# Altium footprint library SG__PCB_SOT.PcbLib: 28 footprints (part 1 of 2)
Each footprint in its own frame and in the unit in brackets; x right, y up, seen from the top. Pads: shape width x height; smd on the part's side, far side on the other; paste and mask are expansions set on the pad; w line width, h text height; cw(c..) or ccw(c..) is an arc to the next point about the centre after c.
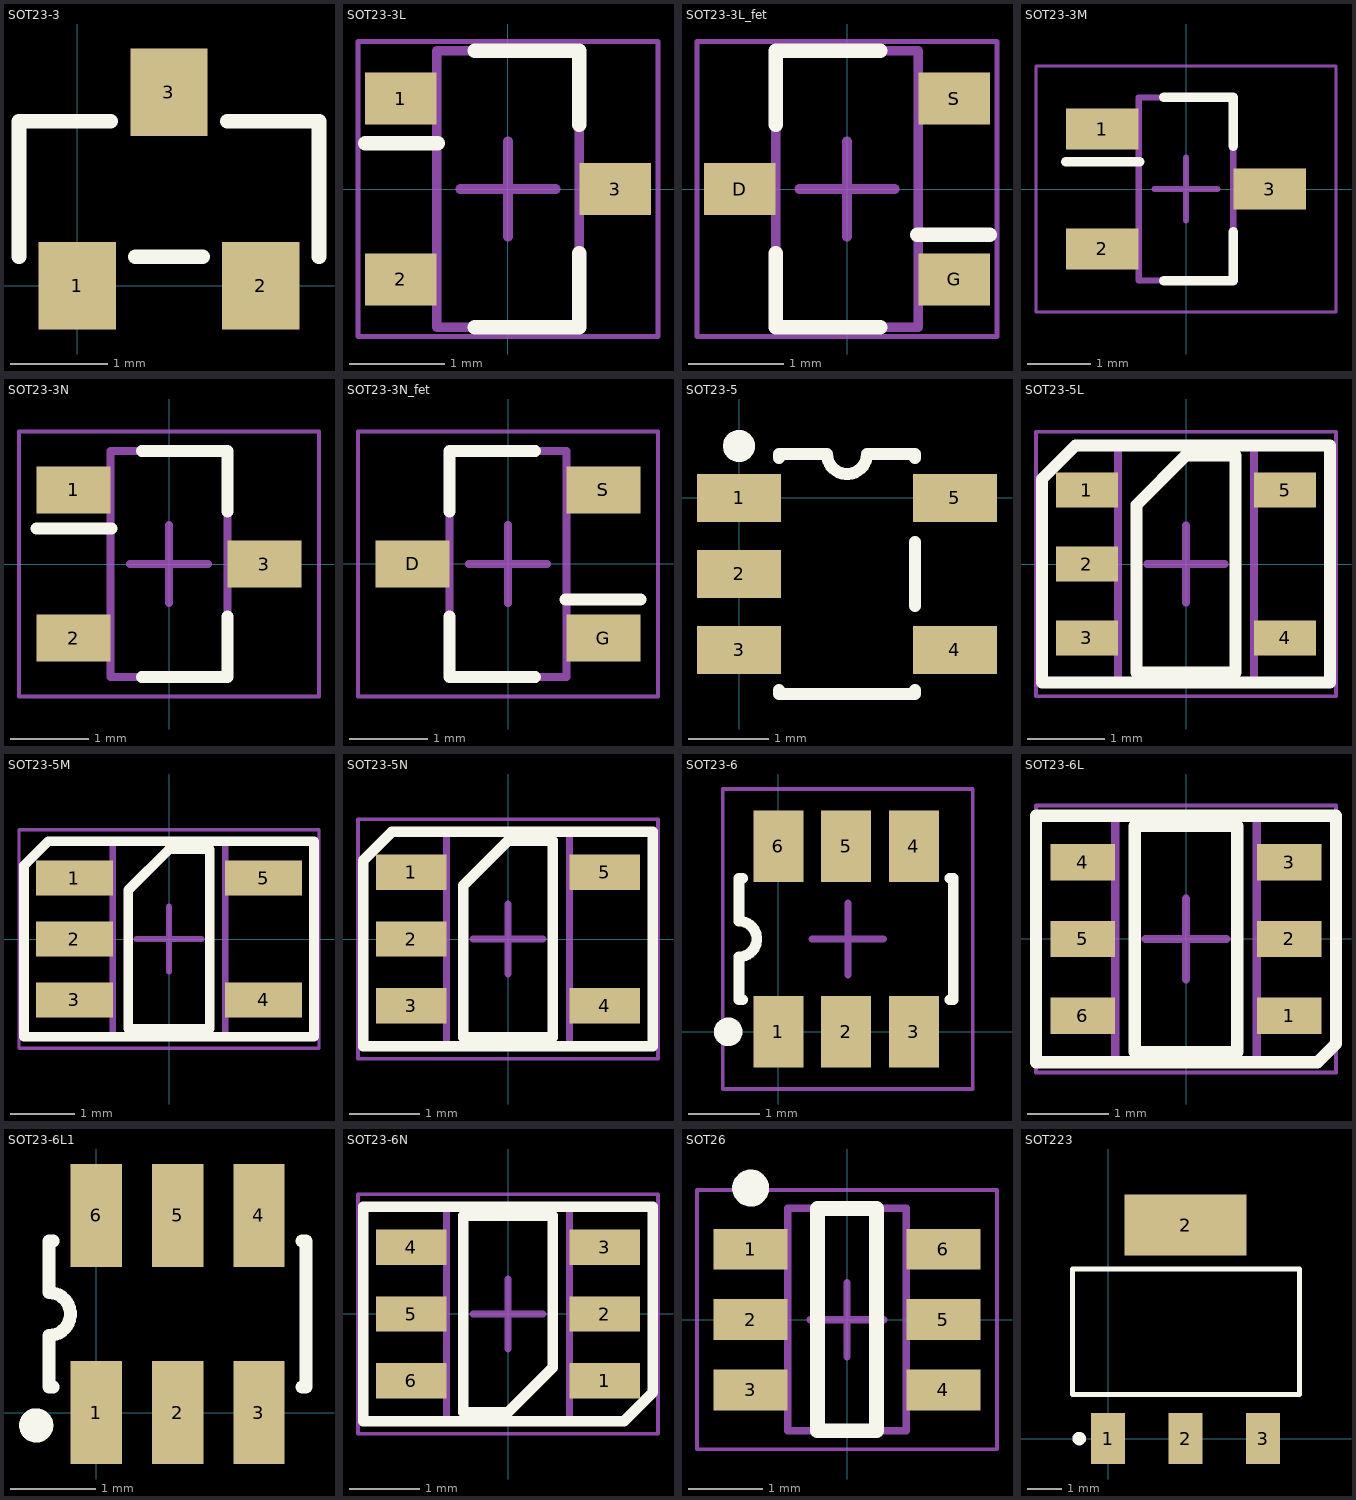
[diagram p0: the footprints below, top view; thin cyan lines are the x and y axes]

## SOT23-3 [mm]
pads (3):
  rect 0.8x0.9 smd mask+0.05: 1(0,0) 2(1.9,0) 3(0.95,2)
Top Overlay:
  lines w0.15: -0.6,0.3 -0.6,1.7 0.35,1.7 ; 0.6,0.3 1.3,0.3 ; 1.55,1.7 2.5,1.7 2.5,0.3
3D body "SOT-23-1.STEP": height 0.99, standoff 0.01, extent -0.52,-0.334 2.4,2.214

## SOT23-3L [mm] "SOT23, 3-Leads, Body 2,90x2,45mm, Pitch 0,95mm, IPC High Density"
height 1.1
pads (3):
  rect 0.75x0.55 smd: 1(-1.125,0.95) 2(-1.125,-0.95) 3(1.125,0)
Top Overlay:
  lines w0.152: -1.499,0.483 -0.737,0.483 ; -0.35,-1.45 0.75,-1.45 0.75,-0.675 ; -0.35,1.45 0.75,1.45 0.75,0.675
Assembly Top:
  lines w0.1: -0.75,-1.45 -0.75,1.45 0.75,1.45 0.75,-1.45 -0.75,-1.45
Courtyard Top:
  lines w0.05: -1.575,-1.55 -1.575,1.55 1.575,1.55 1.575,-1.55 -1.575,-1.55
  lines w0.1: -0.5,0 0.5,0 ; 0,-0.5 0,0.5
3D body "SOT95P245X110-3L.step": height 1.1, standoff 0, extent -1.3,-1.45 1.3,1.45

## SOT23-3L_fet [mm] "SOT23, 3-Leads, Body 2,90x2,45mm, Pitch 0,95mm, IPC High Density"
height 1.1
pads (3):
  rect 0.75x0.55 smd: D(-1.125,0) G(1.125,-0.95) S(1.125,0.95)
Top Overlay:
  lines w0.152: -0.75,-0.675 -0.75,-1.45 0.35,-1.45 ; -0.75,0.675 -0.75,1.45 0.35,1.45 ; 0.737,-0.483 1.499,-0.483
Assembly Top:
  lines w0.1: -0.75,-1.45 -0.75,1.45 0.75,1.45 0.75,-1.45 -0.75,-1.45
Courtyard Top:
  lines w0.05: -1.575,-1.55 -1.575,1.55 1.575,1.55 1.575,-1.55 -1.575,-1.55
  lines w0.1: -0.5,0 0.5,0 ; 0,-0.5 0,0.5
3D body "SOT95P245X110-3L.step": height 1.1, standoff 0, extent -1.3,-1.45 1.3,1.45

## SOT23-3M [mm] "SOT23, 3-Leads, Body 2,90x2,45mm, Pitch 0,95mm, IPC Low Density"
height 1.1
pads (3):
  rect 1.15x0.65 smd: 1(-1.325,0.95) 2(-1.325,-0.95) 3(1.325,0)
Top Overlay:
  lines w0.152: -1.905,0.432 -0.737,0.432 ; -0.35,-1.45 0.75,-1.45 0.75,-0.675 ; -0.35,1.45 0.75,1.45 0.75,0.675
Assembly Top:
  lines w0.1: -0.75,-1.45 0.75,-1.45 0.75,1.45 -0.75,1.45 -0.75,-1.45
Courtyard Top:
  lines w0.05: -2.375,-1.95 2.375,-1.95 2.375,1.95 -2.375,1.95 -2.375,-1.95
  lines w0.1: -0.5,0 0.5,0 ; 0,-0.5 0,0.5
3D body "SOT95P245X110-3M.step": height 1.1, standoff 0, extent -1.3,-1.45 1.3,1.45

## SOT23-3N [mm] "SOT23, 3-Leads, Body 2,90x2,45mm, Pitch 0,95mm, IPC Medium Density"
height 1.1
pads (3):
  rect 0.95x0.6 smd: 1(-1.225,0.95) 2(-1.225,-0.95) 3(1.225,0)
Top Overlay:
  lines w0.152: -1.702,0.457 -0.737,0.457 ; -0.35,-1.45 0.75,-1.45 0.75,-0.675 ; -0.35,1.45 0.75,1.45 0.75,0.675
Assembly Top:
  lines w0.1: -0.75,-1.45 -0.75,1.45 0.75,1.45 0.75,-1.45 -0.75,-1.45
Courtyard Top:
  lines w0.05: -1.925,-1.7 -1.925,1.7 1.925,1.7 1.925,-1.7 -1.925,-1.7
  lines w0.1: -0.5,0 0.5,0 ; 0,-0.5 0,0.5
3D body "SOT95P245X110-3N.step": height 1.1, standoff 0, extent -1.3,-1.45 1.3,1.45

## SOT23-3N_fet [mm] "SOT23, 3-Leads, Body 2,90x2,45mm, Pitch 0,95mm, IPC Medium Density"
height 1.1
pads (3):
  rect 0.95x0.6 smd: D(-1.225,0) G(1.225,-0.95) S(1.225,0.95)
Top Overlay:
  lines w0.152: -0.75,-0.675 -0.75,-1.45 0.35,-1.45 ; -0.75,0.675 -0.75,1.45 0.35,1.45 ; 0.737,-0.457 1.702,-0.457
Assembly Top:
  lines w0.1: -0.75,-1.45 0.75,-1.45 0.75,1.45 -0.75,1.45 -0.75,-1.45
Courtyard Top:
  lines w0.05: -1.925,-1.7 1.925,-1.7 1.925,1.7 -1.925,1.7 -1.925,-1.7
  lines w0.1: -0.5,0 0.5,0 ; 0,-0.5 0,0.5
3D body "SOT95P245X110-3N.step": height 1.1, standoff 0, extent -1.3,-1.45 1.3,1.45

## SOT23-5 [mm]
pads (5):
  rect 1.05x0.6 smd mask+0.07: 1(0,0) 2(0,-0.95) 3(0,-1.9) 4(2.7,-1.9) 5(2.7,0)
Top Overlay:
  circle w0.2: c0,0.65 r0.1
  lines w0.15: 0.5,-2.4 0.5,-2.45 2.2,-2.45 2.2,-2.4 ; 0.5,0.5 0.5,0.55 1.1,0.55 ccw(c1.35,0.55) 1.6,0.55 2.2,0.55 2.2,0.5 ; 2.2,-1.35 2.2,-0.55
3D body "SOT23-5.STEP": height 1.24, standoff 0.14, extent -0.003,-2.413 2.797,0.487

## SOT23-5L [mm] "SOT23, 5-Leads, Body 2,90x2,80mm, Pitch 0,95mm, IPC High Density"
height 1.45
pads (5):
  rect 0.8x0.45 smd: 1(-1.275,0.95) 2(-1.275,0) 3(-1.275,-0.95) 4(1.275,-0.95) 5(1.275,0.95)
Top Overlay:
  lines w0.152: -1.854,-1.524 0.356,-1.524 1.854,-1.524 1.854,1.524 -1.422,1.524 -1.854,1.092 -1.854,-1.524 ; -0.635,-1.397 -0.635,0.762 0,1.397 0.635,1.397 0.635,-1.397 -0.635,-1.397
Assembly Top:
  lines w0.1: -0.875,-1.525 -0.875,1.525 0.875,1.525 0.875,-1.525 -0.875,-1.525
Courtyard Top:
  lines w0.05: -1.93,-1.702 -1.93,1.702 1.93,1.702 1.93,-1.702 -1.93,-1.702
  lines w0.1: -0.5,0 0.5,0 ; 0,-0.5 0,0.5
3D body "SOT95P280X145-5L.step": height 1.45, standoff 0, extent -1.5,-1.525 1.5,1.525

## SOT23-5M [mm] "SOT23, 5-Leads, Body 2,90x2,80mm, Pitch 0,95mm, IPC Low Density"
height 1.45
pads (5):
  rect 1.2x0.55 smd: 1(-1.475,0.95) 2(-1.475,0) 3(-1.475,-0.95) 4(1.475,-0.95) 5(1.475,0.95)
Top Overlay:
  lines w0.152: -2.261,-1.524 0.356,-1.524 2.261,-1.524 2.261,1.524 -1.88,1.524 -2.261,1.143 -2.261,-1.524 ; -0.635,-1.397 -0.635,0.762 0,1.397 0.635,1.397 0.635,-1.397 -0.635,-1.397
Assembly Top:
  lines w0.1: -0.875,-1.525 0.875,-1.525 0.875,1.525 -0.875,1.525 -0.875,-1.525
Courtyard Top:
  lines w0.05: -2.337,-1.702 2.337,-1.702 2.337,1.702 -2.337,1.702 -2.337,-1.702
  lines w0.1: -0.5,0 0.5,0 ; 0,-0.5 0,0.5
3D body "SOT95P280X145-5M.step": height 1.45, standoff 0, extent -1.5,-1.525 1.5,1.525

## SOT23-5N [mm] "SOT23, 5-Leads, Body 2,90x2,80mm, Pitch 0,95mm, IPC Medium Density"
height 1.45
pads (5):
  rect 1x0.5 smd: 1(-1.375,0.95) 2(-1.375,0) 3(-1.375,-0.95) 4(1.375,-0.95) 5(1.375,0.95)
Top Overlay:
  lines w0.152: -2.057,-1.524 -2.057,1.118 -1.651,1.524 2.057,1.524 2.057,-1.524 0.356,-1.524 -2.057,-1.524 ; -0.635,-1.397 0.635,-1.397 0.635,1.397 0,1.397 -0.635,0.762 -0.635,-1.397
Assembly Top:
  lines w0.1: -0.875,-1.525 0.875,-1.525 0.875,1.525 -0.875,1.525 -0.875,-1.525
Courtyard Top:
  lines w0.05: -2.134,-1.702 -2.134,1.702 2.134,1.702 2.134,-1.702 -2.134,-1.702
  lines w0.1: -0.5,0 0.5,0 ; 0,-0.5 0,0.5
3D body "SOT95P280X145-5N.step": height 1.45, standoff 0, extent -1.5,-1.525 1.5,1.525

## SOT23-6 [mm]
pads (6):
  rect 0.7x1 smd mask+0.05: 1(0,0) 2(0.95,0) 3(1.9,0) 4(1.9,2.6) 5(0.95,2.6) 6(0,2.6)
Top Overlay:
  circle w0.2: c-0.7,0 r0.1
  lines w0.15: -0.5,0.45 -0.55,0.45 -0.55,1.05 ccw(c-0.55,1.3) -0.55,1.55 -0.55,2.15 -0.5,2.15 ; 2.4,0.45 2.45,0.45 2.45,2.15 2.4,2.15
Mechanical 15:
  lines w0.05: -0.775,-0.8 -0.775,3.4 2.725,3.4 2.725,-0.8 -0.775,-0.8
  lines w0.1: 0.475,1.3 1.475,1.3 ; 0.975,0.8 0.975,1.8
3D body "SOT-23-6.step": height 1.09, standoff 0, extent -0.432,0.057 2.362,2.483

## SOT23-6L [mm] "SOT23, 5-Leads, Body 2,90x2,80mm, Pitch 0,95mm, IPC High Density"
height 1.45
pads (6):
  rect 0.8x0.45 smd: 1(1.275,-0.95) 2(1.275,0) 3(1.275,0.95) 4(-1.275,0.95) 5(-1.275,0) 6(-1.275,-0.95)
Top Overlay:
  lines w0.152: -1.854,-1.524 1.626,-1.524 1.854,-1.295 1.854,1.524 -0.356,1.524 -1.854,1.524 -1.854,-1.524 ; -0.635,-1.397 0.635,-1.397 0.635,1.397 -0.635,1.397 -0.635,-1.397
Assembly Top:
  lines w0.1: -0.875,-1.525 -0.875,1.525 0.875,1.525 0.875,-1.525 -0.875,-1.525
Courtyard Top:
  lines w0.05: -1.854,-1.65 -1.854,1.65 1.854,1.65 1.854,-1.65 -1.854,-1.65
  lines w0.1: -0.5,0 0.5,0 ; 0,-0.5 0,0.5
3D body "SOT-23-6.step": height 1.09, standoff 0, extent -1.243,-1.387 1.183,1.407

## SOT23-6L1 [mm]
pads (6):
  rect 0.6x1.2 smd mask+0.05: 1(0,0) 2(0.95,0) 3(1.9,0) 4(1.9,2.3) 5(0.95,2.3) 6(0,2.3)
Top Overlay:
  circle w0.2: c-0.7,-0.15 r0.1
  lines w0.15: -0.5,0.3 -0.55,0.3 -0.55,0.9 ccw(c-0.55,1.15) -0.55,1.4 -0.55,2 -0.5,2 ; 2.4,0.3 2.45,0.3 2.45,2 2.4,2
3D body "SOT-23-6.step": height 1.09, standoff 0, extent -0.432,-0.093 2.362,2.333

## SOT23-6N [mm] "SOT23, 6-Leads, Body 2,90x2,80mm, Pitch 0,95mm, IPC Medium Density"
height 1.45
pads (6):
  rect 1x0.5 smd: 1(1.375,-0.95) 2(1.375,0) 3(1.375,0.95) 4(-1.375,0.95) 5(-1.375,0) 6(-1.375,-0.95)
Top Overlay:
  lines w0.152: -2.057,-1.524 -2.057,1.524 -0.356,1.524 2.057,1.524 2.057,-1.118 1.651,-1.524 -2.057,-1.524 ; -0.635,-1.397 0,-1.397 0.635,-0.762 0.635,1.397 -0.635,1.397 -0.635,-1.397
Assembly Top:
  lines w0.1: -0.875,-1.525 0.875,-1.525 0.875,1.525 -0.875,1.525 -0.875,-1.525
Courtyard Top:
  lines w0.05: -2.134,-1.702 2.134,-1.702 2.134,1.702 -2.134,1.702 -2.134,-1.702
  lines w0.1: -0.5,0 0.5,0 ; 0,-0.5 0,0.5
3D body "SOT95P280X145-5N.step": height 1.45, standoff 0, extent -1.5,-1.525 1.5,1.525

## SOT26 [mm] "SOT, 6-Leads, Body 2,95x2,75mm, Pitch 0,95mm, IPC Medium Density"
height 1.1
pads (6):
  rect 1x0.55 smd: 1(-1.3,0.95) 2(-1.3,0) 3(-1.3,-0.95) 4(1.3,-0.95) 5(1.3,0) 6(1.3,0.95)
Top Overlay:
  circle w0.25: c-1.3,1.775 r0.125
  lines w0.2: -0.4,-1.5 -0.4,1.5 0.4,1.5 0.4,-1.5 -0.4,-1.5
Assembly Top:
  lines w0.1: -0.8,-1.5 0.8,-1.5 0.8,1.5 -0.8,1.5 -0.8,-1.5
Courtyard Top:
  lines w0.05: -2.025,-1.75 2.025,-1.75 2.025,1.75 -2.025,1.75 -2.025,-1.75
  lines w0.1: -0.5,0 0.5,0 ; 0,-0.5 0,0.5
3D body "SOT26.step": height 1.4, standoff 0, extent -1.5,-1.55 1.5,1.55

## SOT223 [mm]
pads (4):
  rect 1x1.5 smd mask+0.05: 1(0,0) 2(2.286,0) 3(4.572,0)
  rect 3.6x1.8 smd mask+0.05: 2(2.286,6.3)
Top Overlay:
  circle w0.2: c-0.85,0 r0.1
  lines w0.15: -1.05,1.3 -1.05,5 5.65,5 5.65,1.3 -1.05,1.3
3D body "sot-223.step": height 1.64, standoff -0.04, extent -0.964,-0.418 5.536,6.514